# EAGLE library part PAM2841 (library dword1511-pmic-dcdc)
1.5A Switch Current, 40V Precision WLED Driver
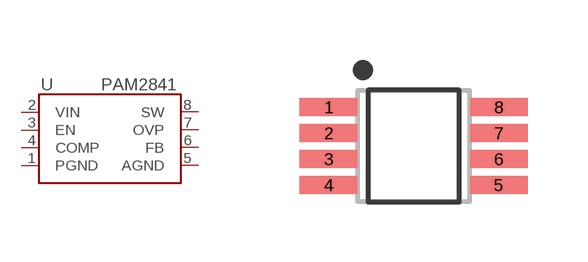
[diagram p26: symbol with the pads of MSOP-8-3X3; footprint MSOP-8-3X3]

Designator prefix U

## PAM2841SR  [MSOP-8-3X3]
1  PGND  pwr
2  VIN  pwr
3  EN  in
4  COMP  out
5  AGND  pwr
6  FB  in
7  OVP  in
8  SW  out

## Footprint MSOP-8-3X3 (pad centres in mm)
smd 1.45 x 0.45: 1 -2.125,0.975; 2 -2.125,0.325; 3 -2.125,-0.325; 4 -2.125,-0.975; 5 2.125,-0.975; 6 2.125,-0.325; 7 2.125,0.325; 8 2.125,0.975